# EAGLE library part F-2X6 (library con-headers-jp)
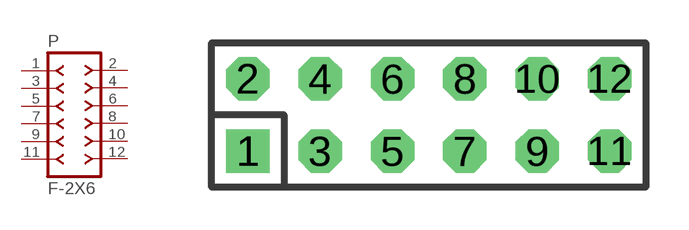
[diagram p4: symbol with the pads of DIL-100-2X6; footprint DIL-100-2X6]

Designator prefix P

## F-2X6  [DIL-100-2X6]
1  1  pas
2  2  pas
3  3  pas
4  4  pas
5  5  pas
6  6  pas
7  7  pas
8  8  pas
9  9  pas
10  10  pas
11  11  pas
12  12  pas

## Footprint DIL-100-2X6 (pad centres in mm)
drill 1.016 square: 1 -6.35,-1.27
drill 1.016 octagon: 2 -6.35,1.27; 3 -3.81,-1.27; 4 -3.81,1.27; 5 -1.27,-1.27; 6 -1.27,1.27; 7 1.27,-1.27; 8 1.27,1.27; 9 3.81,-1.27; 10 3.81,1.27; 11 6.35,-1.27; 12 6.35,1.27